# EAGLE library part LT1789 (library QuantumOptics)
LT1789-1/10, Linear Tech, instrumentation amp, RRIO, G=1 to 1K. http://www.linear.com/pc/downloadDocument.do?navId=H0,C1,C1154,C1009,C1045,P1323,D2762
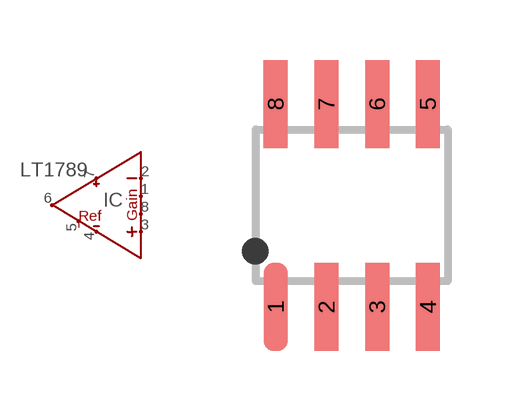
[diagram p68: symbol with the pads of SOIC-8; footprint SOIC-8]

Designator prefix IC

## LT1789  [SOIC-8]
1  RG1  in
2  -IN  in
3  +IN  in
4  V-  in
5  REF
6  OUT  out
7  V+  in
8  RG2  in

## Footprint SOIC-8 (pad centres in mm)
SOIC-8 (a.k.a. SO-8), pads on 0.050" x 0.200" c-c spacing.
smd 0.6 x 2.2: 1 -1.27,-2.54; 2 0,-2.54; 3 1.27,-2.54; 4 2.54,-2.54; 5 2.54,2.54; 6 1.27,2.54; 7 0,2.54; 8 -1.27,2.54